# EAGLE library part MISC-555-TIMER (library tidyeagle)
Generic 555 Timer Pin numbers are included to assist when working from number-only diagrams.
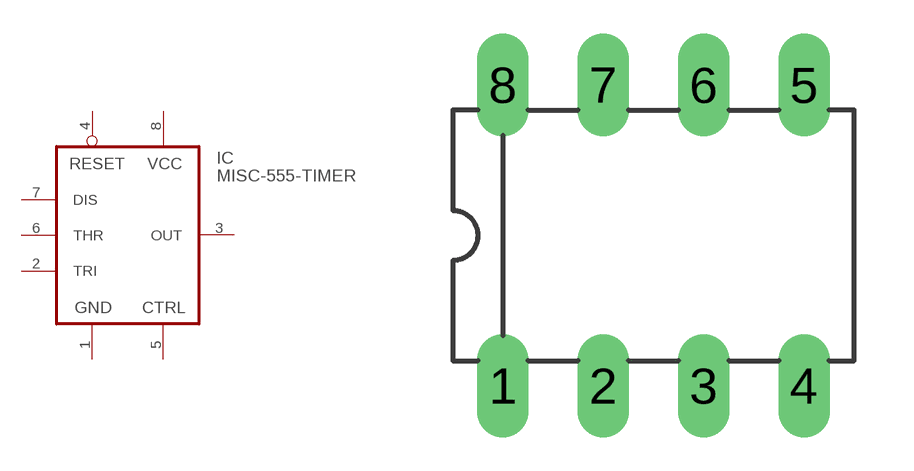
[diagram p13: symbol with the pads of DIL08-3; footprint DIL08-3]

Designator prefix IC

## MISC-555-TIMER-DIP8  [DIL08-3]
1  GND  pwr
2  TRI
3  OUT
4  RST
5  CTRL
6  THR
7  DIS
8  VCC  pwr

## Footprint DIL08-3 (pad centres in mm)
drill 0.8 long: 1 -3.81,-3.81; 2 -1.27,-3.81; 3 1.27,-3.81; 4 3.81,-3.81; 5 3.81,3.81; 6 1.27,3.81; 7 -1.27,3.81; 8 -3.81,3.81